# Altium footprint library PCB - FUSE - FUSE 0603_1608 0.5MM.PcbLib: 1 footprints
Each footprint in its own frame and in the unit in brackets; x right, y up, seen from the top. Pads: shape width x height; smd on the part's side, far side on the other; paste and mask are expansions set on the pad; w line width, h text height; cw(c..) or ccw(c..) is an arc to the next point about the centre after c.
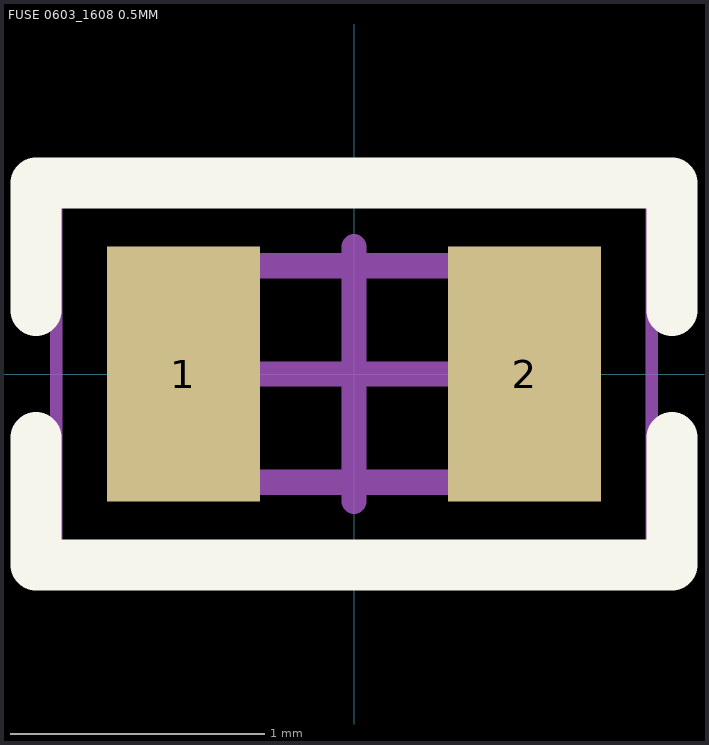
[diagram p0: the footprint, top view; thin cyan lines are the x and y axes]

## FUSE 0603_1608 0.5MM [mm] "Chip Fuse 1.5A AC 5V DC, 2-Leads, Body 1.54x0.85mm"
height 0.59
pads (2):
  rect 0.6x1 smd: 1(-0.67,0) 2(0.67,0)
Top Overlay:
  lines w0.2: -1.25,-0.25 -1.25,-0.75 1.25,-0.75 1.25,-0.25 ; -1.25,0.25 -1.25,0.75 1.25,0.75 1.25,0.25
Mechanical 13:
  lines w0.1: -0.77,-0.425 -0.77,0.425 0.77,0.425 0.77,-0.425 -0.77,-0.425
Mechanical 15:
  lines w0.05: -1.17,-0.7 1.17,-0.7 1.17,0.7 -1.17,0.7 -1.17,-0.7
  lines w0.1: -0.5,0 0,0 ; 0,-0.5 0,0 ; 0,0.5 0,0 ; 0.5,0 0,0
3D body "FUSE 0603_1608 0.5MM.step": height 0.58, standoff 0, extent -0.77,-0.425 0.77,0.425